# Altium schematic symbol library SMD Passive.SchLib: 216 symbols (part 2 of 4)
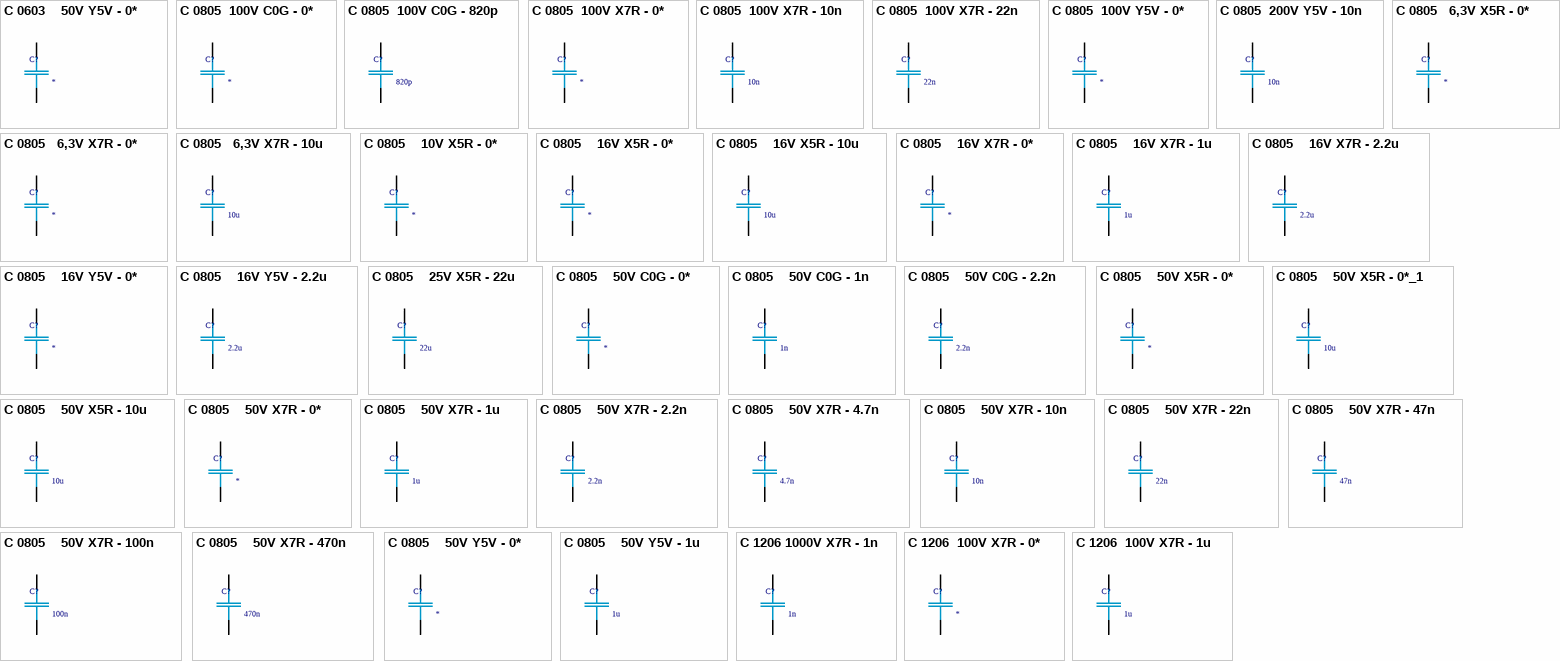
[diagram p6: symbols C 0603    50V Y5V - 0* to C 1206  100V X7R - 1u]

## C 0805    50V X5R - 10u
designator C?, comment 10u
SMD 0805     50V X5R 10%; Part Number: CC0805KKX5R9BB106; Manufacturer: Samsung; TYPE: Capacitors; Package-mm: 2012; Mount Type: SMT; Publisher: Hefest; Manufacturer Alternate: *; Part Number Alternate: *; Published: 07.04.2019; Supplier 1: Mouser; Supplier Part Number 1: 603-CC0805KKX59BB106; RoHS: Y; Technology: Ceramic  MLCC; Package: 0805; VDC: 50V; TempCo: X5R; Tolerance %: ±10%; VAC: *; ESR Ohm: *; ComponentLink1Description: Datasheet Link; ComponentLink1URL: https://www.mouser.bg/datasheet/2/447/UPY-GPHC_X5R_4V-to-50V_25-1131599.pdf; Temperature Range: -55°C ~ +85°C; Price: 10u; Value: 10u
footprint C 0805(2012)x0.65
simulation model Capacitor (Model Description)
signal-integrity model Capacitor (Model Description)
pins: 1, 2
1 alternate drawing of the same symbol

## C 0805    50V X7R - 0*
designator C?
SMD 0805     50V X7R 10%; Manufacturer: Samsung; TYPE: Capacitors; Package-mm: 2012; Part Number: *; Mount Type: SMT; Publisher: Hefest; Manufacturer Alternate: *; Part Number Alternate: *; Published: 07.04.2019; Supplier 1: Comet; Supplier Part Number 1: *; RoHS: Y; Technology: Ceramic  MLCC; Package: 0805; VDC: 50V; TempCo: X7R; Tolerance %: ±10%; VAC: *; ESR Ohm: *; ComponentLink1Description: Datasheet Link; ComponentLink1URL: https://store.comet.bg/download-file.php?id=11; Temperature Range: -55°C ~ +125°C; Price: *; Value: *
footprint C 0805(2012)x0.65
simulation model Capacitor (Model Description)
signal-integrity model Capacitor (Model Description)
pins: 1, 2
1 alternate drawing of the same symbol

## C 0805    50V X7R - 1u
designator C?, comment 1u
SMD 0805     50V X7R 10%; Part Number: CL21B105KBFNNNE; Manufacturer: Samsung; TYPE: Capacitors; Package-mm: 2012; Mount Type: SMT; Publisher: Hefest; Manufacturer Alternate: *; Part Number Alternate: *; Published: 07.04.2019; Supplier 1: Comet; Supplier Part Number 1: C0805 1.0uF 50V X7R SAMSUNG; RoHS: Y; Technology: Ceramic  MLCC; Package: 0805; VDC: 50V; TempCo: X7R; Tolerance %: ±10%; VAC: *; ESR Ohm: *; ComponentLink1Description: Datasheet Link; ComponentLink1URL: https://store.comet.bg/download-file.php?id=11; Temperature Range: -55°C ~ +125°C; Price: 0.17; Value: 1u
footprint C 0805(2012)x0.65
simulation model Capacitor (Model Description)
signal-integrity model Capacitor (Model Description)
pins: 1, 2
1 alternate drawing of the same symbol

## C 0805    50V X7R - 2.2n
designator C?, comment 2.2n
SMD 0805     50V X7R 10%; Part Number: CL21B222KBNC; Manufacturer: Samsung; TYPE: Capacitors; Package-mm: 2012; Mount Type: SMT; Publisher: Hefest; Manufacturer Alternate: *; Part Number Alternate: *; Published: 07.04.2019; Supplier 1: Comet; Supplier Part Number 1: C0805 2.2nF 50V X7R SAMSUNG; RoHS: Y; Technology: Ceramic  MLCC; Package: 0805; VDC: 50V; TempCo: X7R; Tolerance %: ±10%; VAC: *; ESR Ohm: *; ComponentLink1Description: Datasheet Link; ComponentLink1URL: https://store.comet.bg/download-file.php?id=11; Temperature Range: -55°C ~ +125°C; Price: 0.026; Value: 2.2n
footprint C 0805(2012)x0.65
simulation model Capacitor (Model Description)
signal-integrity model Capacitor (Model Description)
pins: 1, 2
1 alternate drawing of the same symbol

## C 0805    50V X7R - 4.7n
designator C?, comment 4.7n
SMD 0805     50V X7R 10%; Part Number: CL21B472KBNC; Manufacturer: Samsung; TYPE: Capacitors; Package-mm: 2012; Mount Type: SMT; Publisher: Hefest; Manufacturer Alternate: *; Part Number Alternate: *; Published: 07.04.2019; Supplier 1: Comet; Supplier Part Number 1: C0805 4.7nF 50V X7R; RoHS: Y; Technology: Ceramic  MLCC; Package: 0805; VDC: 50V; TempCo: X7R; Tolerance %: ±10%; VAC: *; ESR Ohm: *; ComponentLink1Description: Datasheet Link; ComponentLink1URL: https://store.comet.bg/download-file.php?id=11; Temperature Range: -55°C ~ +125°C; Price: 0.014; Value: 4.7n
footprint C 0805(2012)x0.65
simulation model Capacitor (Model Description)
signal-integrity model Capacitor (Model Description)
pins: 1, 2
1 alternate drawing of the same symbol

## C 0805    50V X7R - 10n
designator C?, comment 10n
SMD 0805     50V X7R 10%; Part Number: CL21B103KBNC; Manufacturer: Samsung; TYPE: Capacitors; Package-mm: 2012; Mount Type: SMT; Publisher: Hefest; Manufacturer Alternate: *; Part Number Alternate: *; Published: 07.04.2019; Supplier 1: Comet; Supplier Part Number 1: C0805 10nF 50V X7R SAMSUNG; RoHS: Y; Technology: Ceramic  MLCC; Package: 0805; VDC: 50V; TempCo: X7R; Tolerance %: ±10%; VAC: *; ESR Ohm: *; ComponentLink1Description: Datasheet Link; ComponentLink1URL: https://store.comet.bg/download-file.php?id=11; Temperature Range: -55°C ~ +125°C; Price: 0.032; Value: 10n
footprint C 0805(2012)x0.65
simulation model Capacitor (Model Description)
signal-integrity model Capacitor (Model Description)
pins: 1, 2
1 alternate drawing of the same symbol

## C 0805    50V X7R - 22n
designator C?, comment 22n
SMD 0805     50V X7R 10%; Part Number: CL21B223KBNC; Manufacturer: Samsung; TYPE: Capacitors; Package-mm: 2012; Mount Type: SMT; Publisher: Hefest; Manufacturer Alternate: *; Part Number Alternate: *; Published: 07.04.2019; Supplier 1: Comet; Supplier Part Number 1: C0805 22nF 50V X7R SAMSUNG; RoHS: Y; Technology: Ceramic  MLCC; Package: 0805; VDC: 50V; TempCo: X7R; Tolerance %: ±10%; VAC: *; ESR Ohm: *; ComponentLink1Description: Datasheet Link; ComponentLink1URL: https://store.comet.bg/download-file.php?id=11; Temperature Range: -55°C ~ +125°C; Price: 0.040; Value: 22n
footprint C 0805(2012)x0.65
simulation model Capacitor (Model Description)
signal-integrity model Capacitor (Model Description)
pins: 1, 2
1 alternate drawing of the same symbol

## C 0805    50V X7R - 47n
designator C?, comment 47n
SMD 0805     50V X7R 10%; Part Number: CL21B473KBNC; Manufacturer: Samsung; TYPE: Capacitors; Package-mm: 2012; Mount Type: SMT; Publisher: Hefest; Manufacturer Alternate: *; Part Number Alternate: *; Published: 07.04.2019; Supplier 1: Comet; Supplier Part Number 1: C0805 47nF 50V X7R SAMSUNG; RoHS: Y; Technology: Ceramic  MLCC; Package: 0805; VDC: 50V; TempCo: X7R; Tolerance %: ±10%; VAC: *; ESR Ohm: *; ComponentLink1Description: Datasheet Link; ComponentLink1URL: https://store.comet.bg/download-file.php?id=11; Temperature Range: -55°C ~ +125°C; Price: 0.320; Value: 47n
footprint C 0805(2012)x0.85
simulation model Capacitor (Model Description)
signal-integrity model Capacitor (Model Description)
pins: 1, 2
1 alternate drawing of the same symbol

## C 0805    50V X7R - 100n
designator C?, comment 100n
SMD 0805     50V X7R 10%; Part Number: CL21B104KB8NNNC; Manufacturer: Samsung; TYPE: Capacitors; Package-mm: 2012; Mount Type: SMT; Publisher: Hefest; Manufacturer Alternate: *; Part Number Alternate: *; Published: 07.04.2019; Supplier 1: Comet; Supplier Part Number 1: C0805 100nF 50V X7R SAMSUNG; RoHS: Y; Technology: Ceramic  MLCC; Package: 0805; VDC: 50V; TempCo: X7R; Tolerance %: ±10%; VAC: *; ESR Ohm: *; ComponentLink1Description: Datasheet Link; ComponentLink1URL: https://store.comet.bg/download-file.php?id=11; Temperature Range: -55°C ~ +125°C; Price: 0.048; Value: 100n
footprint C 0805(2012)x1.25
simulation model Capacitor (Model Description)
signal-integrity model Capacitor (Model Description)
pins: 1, 2
1 alternate drawing of the same symbol

## C 0805    50V X7R - 470n
designator C?, comment 470n
SMD 0805     50V X7R 10%; Part Number: CL21B474KBFNNNG; Manufacturer: Samsung; TYPE: Capacitors; Package-mm: 2012; Mount Type: SMT; Publisher: Hefest; Manufacturer Alternate: *; Part Number Alternate: *; Published: 07.04.2019; Supplier 1: Comet; Supplier Part Number 1: C0805 470nF 50V X7R SAMSUNG; RoHS: Y; Technology: Ceramic  MLCC; Package: 0805; VDC: 50V; TempCo: X7R; Tolerance %: ±10%; VAC: *; ESR Ohm: *; ComponentLink1Description: Datasheet Link; ComponentLink1URL: https://store.comet.bg/download-file.php?id=11; Temperature Range: -55°C ~ +125°C; Price: 0.012; Value: 470n
footprint C 0805(2012)x1.25
simulation model Capacitor (Model Description)
signal-integrity model Capacitor (Model Description)
pins: 1, 2
1 alternate drawing of the same symbol

## C 0805    50V Y5V - 0*
designator C?
SMD 0805     50V Y5V -82/+22%; Manufacturer: Samsung; TYPE: Capacitors; Package-mm: 2012; Part Number: *; Mount Type: SMT; Publisher: Hefest; Manufacturer Alternate: *; Part Number Alternate: *; Published: 07.04.2019; Supplier 1: Comet; Supplier Part Number 1: *; RoHS: Y; Technology: Ceramic  MLCC; Package: 0805; VDC: 50V; TempCo: Y5V; Tolerance %: -82/+22%; VAC: *; ESR Ohm: *; ComponentLink1Description: Datasheet Link; ComponentLink1URL: https://store.comet.bg/download-file.php?id=11; Temperature Range: -30°C ~ +85°C; Price: *; Value: *
footprint C 0805(2012)x0.65
simulation model Capacitor (Model Description)
signal-integrity model Capacitor (Model Description)
pins: 1, 2
1 alternate drawing of the same symbol

## C 0805    50V Y5V - 1u
designator C?, comment 1u
SMD 0805     50V Y5V -82/+22%; Part Number: CL21F105ZBFNNNG; Manufacturer: Samsung; TYPE: Capacitors; Package-mm: 2012; Mount Type: SMT; Publisher: Hefest; Manufacturer Alternate: *; Part Number Alternate: *; Published: 07.04.2019; Supplier 1: Comet; Supplier Part Number 1: C0805 1.0uF 50V Y5V SAMSUNG; RoHS: Y; Technology: Ceramic  MLCC; Package: 0805; VDC: 50V; TempCo: Y5V; Tolerance %: -82/+22%; VAC: *; ESR Ohm: *; ComponentLink1Description: Datasheet Link; ComponentLink1URL: https://store.comet.bg/download-file.php?id=11; Temperature Range: -30°C ~ +85°C; Price: 0.098; Value: 1u
footprint C 0805(2012)x0.65
simulation model Capacitor (Model Description)
signal-integrity model Capacitor (Model Description)
pins: 1, 2
1 alternate drawing of the same symbol

## C 1206 1000V X7R - 1n
designator C?, comment 1n
SMD 1206 1000V X7R 10%; Manufacturer: YAGEO; TYPE: Capacitors; Tolerance %: ±5%; Package-mm: 3216; Part Number: *; Mount Type: SMT; Publisher: Hefest; Manufacturer Alternate: *; Part Number Alternate: *; Published: 07.04.2019; Supplier 1: Comet; Supplier Part Number 1: C1206 1.0nF 1000V X7R; RoHS: Y; Technology: Ceramic  MLCC; Package: 1206; VDC: 1000V; TempCo: X7R; VAC: *; ESR Ohm: *; ComponentLink1Description: Datasheet Link; ComponentLink1URL: https://store.comet.bg/download-file.php?id=15184; Temperature Range: -55°C ~ +125°C; Price: 0.130; Value: 1n
footprint C 1206(3216)x1.25
simulation model Capacitor (Model Description)
signal-integrity model Capacitor (Model Description)
pins: 1, 2
1 alternate drawing of the same symbol

## C 1206  100V X7R - 0*
designator C?
SMD 1206   100V X7R 10%; Manufacturer: Samsung; TYPE: Capacitors; Package-mm: 3216; Part Number: *; Mount Type: SMT; Publisher: Hefest; Manufacturer Alternate: *; Part Number Alternate: *; Published: 07.04.2019; Supplier 1: Comet; Supplier Part Number 1: *; RoHS: Y; Technology: Ceramic  MLCC; Package: 1206; VDC: 100V; TempCo: X7R; Tolerance %: ±10%; VAC: *; ESR Ohm: *; ComponentLink1Description: Datasheet Link; ComponentLink1URL: https://store.comet.bg/download-file.php?id=11; Temperature Range: -55°C ~ +125°C; Price: *; Value: *
footprint C 1210(3225)x1.6
simulation model Capacitor (Model Description)
signal-integrity model Capacitor (Model Description)
pins: 1, 2
1 alternate drawing of the same symbol

## C 1206  100V X7R - 1u
designator C?, comment 1u
SMD 1206   100V X7R 10%; Part Number: CL31B105KCHSNNE; Manufacturer: Samsung; TYPE: Capacitors; Package-mm: 3216; Mount Type: SMT; Publisher: Hefest; Manufacturer Alternate: *; Part Number Alternate: *; Published: 07.04.2019; Supplier 1: Comet; Supplier Part Number 1: C1206 1.0uF 100V X7R SAMSUNG; RoHS: Y; Technology: Ceramic  MLCC; Package: 1206; VDC: 100V; TempCo: X7R; Tolerance %: ±10%; VAC: *; ESR Ohm: *; ComponentLink1Description: Datasheet Link; ComponentLink1URL: https://store.comet.bg/download-file.php?id=11; Temperature Range: -55°C ~ +125°C; Price: 0.470; Value: 1u
footprint C 1206(3216)x1.6
simulation model Capacitor (Model Description)
signal-integrity model Capacitor (Model Description)
pins: 1, 2
1 alternate drawing of the same symbol

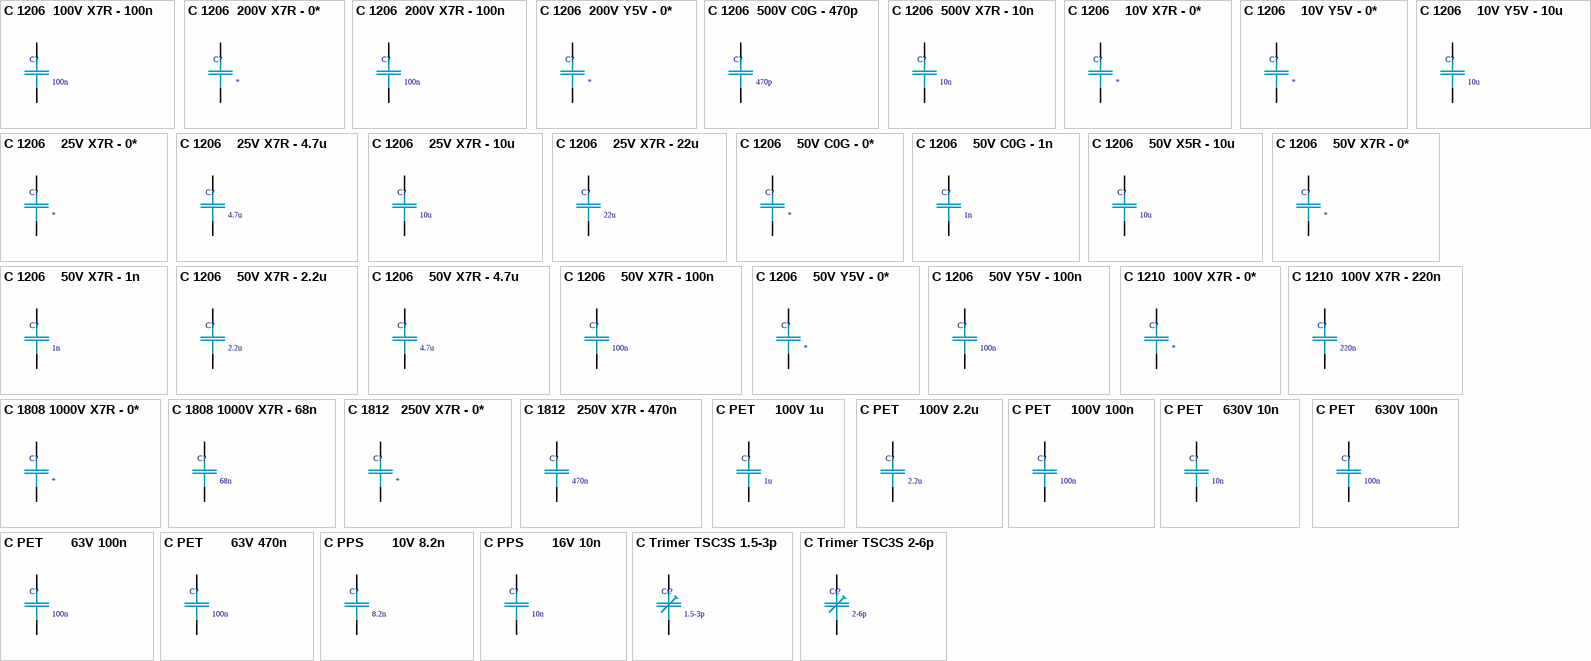
[diagram p2: symbols C 1206  100V X7R - 100n to C Trimer TSC3S 2-6p]

## C 1206  100V X7R - 100n
designator C?, comment 100n
SMD 1206   100V X7R 10%; Part Number: CL31B104KCFNNNE; Manufacturer: Samsung; TYPE: Capacitors; Package-mm: 3216; Mount Type: SMT; Publisher: Hefest; Manufacturer Alternate: *; Part Number Alternate: *; Published: 07.04.2019; Supplier 1: Comet; Supplier Part Number 1: C1206 100nF 100V X7R SAMSUNG; RoHS: Y; Technology: Ceramic  MLCC; Package: 1206; VDC: 100V; TempCo: X7R; Tolerance %: ±10%; VAC: *; ESR Ohm: *; ComponentLink1Description: Datasheet Link; ComponentLink1URL: https://store.comet.bg/download-file.php?id=11; Temperature Range: -55°C ~ +125°C; Price: 0.090; ComponentLink2Description: Characteristics data; ComponentLink2URL: https://store.comet.bg/download-file.php?id=3821; Value: 100n
footprint C 1206(3216)x1.25
simulation model Capacitor (Model Description)
signal-integrity model Capacitor (Model Description)
pins: 1, 2
1 alternate drawing of the same symbol

## C 1206  200V X7R - 0*
designator C?
SMD 1206   100V X7R 10%; Manufacturer: Samsung; TYPE: Capacitors; VDC: 200V; Package-mm: 3216; Part Number: *; Mount Type: SMT; Publisher: Hefest; Manufacturer Alternate: *; Part Number Alternate: *; Published: 07.04.2019; Supplier 1: Comet; Supplier Part Number 1: *; RoHS: Y; Technology: Ceramic  MLCC; Package: 1206; TempCo: X7R; Tolerance %: ±10%; VAC: *; ESR Ohm: *; ComponentLink1Description: Datasheet Link; ComponentLink1URL: https://store.comet.bg/download-file.php?id=11; Temperature Range: -55°C ~ +125°C; Price: *; Value: *
footprint C 1206(3216)x0.85
simulation model Capacitor (Model Description)
signal-integrity model Capacitor (Model Description)
pins: 1, 2
1 alternate drawing of the same symbol

## C 1206  200V X7R - 100n
designator C?, comment 100n
SMD 1206   200V X7R 10%; Manufacturer: Samsung; TYPE: Capacitors; Package-mm: 3216; Part Number: *; Mount Type: SMT; Publisher: Hefest; Manufacturer Alternate: *; Part Number Alternate: *; Published: 07.04.2019; Supplier 1: Comet; Supplier Part Number 1: C1206 100nF 200V X7R SAMSUNG; RoHS: Y; Technology: Ceramic  MLCC; Package: 1206; VDC: 200V; TempCo: X7R; Tolerance %: ±10%; VAC: *; ESR Ohm: *; ComponentLink1Description: Datasheet Link; ComponentLink1URL: https://store.comet.bg/download-file.php?id=6610; Temperature Range: -55°C ~ +125°C; Price: 0.100; Value: 100n
footprint C 1206(3216)x1.6
simulation model Capacitor (Model Description)
signal-integrity model Capacitor (Model Description)
pins: 1, 2
1 alternate drawing of the same symbol

## C 1206  200V Y5V - 0*
designator C?
SMD 1206   200V Y5V -82/+22%; Manufacturer: Samsung; TYPE: Capacitors; Package-mm: 3216; Part Number: *; Mount Type: SMT; Publisher: Hefest; Manufacturer Alternate: *; Part Number Alternate: *; Published: 07.04.2019; Supplier 1: Comet; Supplier Part Number 1: *; RoHS: Y; Technology: Ceramic  MLCC; Package: 1206; VDC: 200V; TempCo: Y5V; Tolerance %: -82/+22%; VAC: *; ESR Ohm: *; ComponentLink1Description: Datasheet Link; ComponentLink1URL: https://store.comet.bg/download-file.php?id=11; Temperature Range: -30°C ~ +85°C; Price: *; Value: *
footprint C 1206(3216)x0.85
simulation model Capacitor (Model Description)
signal-integrity model Capacitor (Model Description)
pins: 1, 2
1 alternate drawing of the same symbol

## C 1206  500V C0G - 470p
designator C?, comment 470p
SMD 1206   500V C0G 10%; Part Number: CL31C471JGFNNNE; Manufacturer: Samsung; TYPE: Capacitors; Tolerance %: ±5%; Package-mm: 3216; Mount Type: SMT; Publisher: Hefest; Manufacturer Alternate: *; Part Number Alternate: *; Published: 07.04.2019; Supplier 1: Comet; Supplier Part Number 1: C1206 470pF 500V C0G SAMSUNG; RoHS: Y; Technology: Ceramic  MLCC; Package: 1206; VDC: 500V; TempCo: C0G; VAC: *; ESR Ohm: *; ComponentLink1Description: Datasheet Link; ComponentLink1URL: https://store.comet.bg/download-file.php?id=11; Temperature Range: -55°C ~ +125°C; Price: 0.180; ComponentLink2Description: Characteristics data; ComponentLink2URL: https://store.comet.bg/download-file.php?id=5201; Value: 470p
footprint C 1206(3216)x1.25
simulation model Capacitor (Model Description)
signal-integrity model Capacitor (Model Description)
pins: 1, 2
1 alternate drawing of the same symbol

## C 1206  500V X7R - 10n
designator C?, comment 10n
SMD 1206   500V X7R 10%; Part Number: CL31B103KGFNNNE; Manufacturer: Samsung; TYPE: Capacitors; Tolerance %: ±5%; Package-mm: 3216; Mount Type: SMT; Publisher: Hefest; Manufacturer Alternate: *; Part Number Alternate: *; Published: 07.04.2019; Supplier 1: Comet; Supplier Part Number 1: C1206 10nF 500V X7R SAMSUNG; RoHS: Y; Technology: Ceramic  MLCC; Package: 1206; VDC: 500V; TempCo: X7R; VAC: *; ESR Ohm: *; ComponentLink1Description: Datasheet Link; ComponentLink1URL: https://store.comet.bg/download-file.php?id=6610; Temperature Range: -55°C ~ +125°C; Price: 0.050; ComponentLink2Description: Characteristics data; ComponentLink2URL: https://store.comet.bg/download-file.php?id=3816; Value: 10n
footprint C 1206(3216)x1.25
simulation model Capacitor (Model Description)
signal-integrity model Capacitor (Model Description)
pins: 1, 2
1 alternate drawing of the same symbol

## C 1206    10V X7R - 0*
designator C?
SMD 1206     10V X7R 10%; Manufacturer: Samsung; TYPE: Capacitors; Package-mm: 3216; Part Number: *; Mount Type: SMT; Publisher: Hefest; Manufacturer Alternate: *; Part Number Alternate: *; Published: 07.04.2019; Supplier 1: Comet; Supplier Part Number 1: *; RoHS: Y; Technology: Ceramic  MLCC; Package: 1206; VDC: 10V; TempCo: X7R; Tolerance %: ±10%; VAC: *; ESR Ohm: *; ComponentLink1Description: Datasheet Link; ComponentLink1URL: https://store.comet.bg/download-file.php?id=11; Temperature Range: -55°C ~ +125°C; Price: *; Value: *
footprint C 1206(3216)x0.85
simulation model Capacitor (Model Description)
signal-integrity model Capacitor (Model Description)
pins: 1, 2
1 alternate drawing of the same symbol

## C 1206    10V Y5V - 0*
designator C?
SMD 1206     10V Y5V -82/+22%; Manufacturer: Samsung; TYPE: Capacitors; Package-mm: 3216; Part Number: *; Mount Type: SMT; Publisher: Hefest; Manufacturer Alternate: *; Part Number Alternate: *; Published: 07.04.2019; Supplier 1: Comet; Supplier Part Number 1: *; RoHS: Y; Technology: Ceramic  MLCC; Package: 1206; VDC: 10V; TempCo: Y5V; Tolerance %: -82/+22%; VAC: *; ESR Ohm: *; ComponentLink1Description: Datasheet Link; ComponentLink1URL: https://store.comet.bg/download-file.php?id=11; Temperature Range: -30°C ~ +85°C; Price: *; Value: *
footprint C 1206(3216)x0.85
simulation model Capacitor (Model Description)
signal-integrity model Capacitor (Model Description)
pins: 1, 2
1 alternate drawing of the same symbol

## C 1206    10V Y5V - 10u
designator C?, comment 10u
SMD 1206     10V Y5V -82/+22%; Part Number: CL31F106ZPHNNNE; Manufacturer: Samsung; TYPE: Capacitors; Package-mm: 3216; Mount Type: SMT; Publisher: Hefest; Manufacturer Alternate: *; Part Number Alternate: *; Published: 07.04.2019; Supplier 1: Comet; Supplier Part Number 1: C1206 10uF 10V Y5V SAMSUNG; RoHS: Y; Technology: Ceramic  MLCC; Package: 1206; VDC: 10V; TempCo: Y5V; Tolerance %: -82/+22%; VAC: *; ESR Ohm: *; ComponentLink1Description: Datasheet Link; ComponentLink1URL: https://store.comet.bg/download-file.php?id=11; Temperature Range: -30°C ~ +85°C; Price: 0.190; Value: 10u
footprint C 1206(3216)x1.6
simulation model Capacitor (Model Description)
signal-integrity model Capacitor (Model Description)
pins: 1, 2
1 alternate drawing of the same symbol

## C 1206    25V X7R - 0*
designator C?
SMD 1206     25V X7R 10%; Manufacturer: Samsung; TYPE: Capacitors; Package-mm: 3216; Part Number: *; Mount Type: SMT; Publisher: Hefest; Manufacturer Alternate: *; Part Number Alternate: *; Published: 07.04.2019; Supplier 1: Comet; Supplier Part Number 1: *; RoHS: Y; Technology: Ceramic  MLCC; Package: 1206; VDC: 25V; TempCo: X7R; Tolerance %: ±10%; VAC: *; ESR Ohm: *; ComponentLink1Description: Datasheet Link; ComponentLink1URL: https://store.comet.bg/download-file.php?id=11; Temperature Range: -55°C ~ +125°C; Price: *; Value: *
footprint C 1206(3216)x0.85
simulation model Capacitor (Model Description)
signal-integrity model Capacitor (Model Description)
pins: 1, 2
1 alternate drawing of the same symbol

## C 1206    25V X7R - 4.7u
designator C?, comment 4.7u
SMD 1206     25V X7R 10%; Part Number: CL31B475KAHNNNE; Manufacturer: Samsung; TYPE: Capacitors; Package-mm: 3216; Mount Type: SMT; Publisher: Hefest; Manufacturer Alternate: *; Part Number Alternate: *; Published: 07.04.2019; Supplier 1: Comet; Supplier Part Number 1: C1206 4.7uF 25V X7R SAMSUNG; RoHS: Y; Technology: Ceramic  MLCC; Package: 1206; VDC: 25V; TempCo: X7R; Tolerance %: ±10%; VAC: *; ESR Ohm: *; ComponentLink1Description: Datasheet Link; ComponentLink1URL: https://store.comet.bg/download-file.php?id=11; Temperature Range: -55°C ~ +125°C; Price: 0.300; Value: 4.7u
footprint C 1206(3216)x1.6
simulation model Capacitor (Model Description)
signal-integrity model Capacitor (Model Description)
pins: 1, 2
1 alternate drawing of the same symbol

## C 1206    25V X7R - 10u
designator C?, comment 10u
SMD 1206     25V X7R 10%; Part Number: CL31B106KAHNNNE; Manufacturer: Samsung; TYPE: Capacitors; Package-mm: 3216; Mount Type: SMT; Publisher: Hefest; Manufacturer Alternate: *; Part Number Alternate: *; Published: 07.04.2019; Supplier 1: Comet; Supplier Part Number 1: C1206 10uF 25V X7R SAMSUNG; RoHS: Y; Technology: Ceramic  MLCC; Package: 1206; VDC: 25V; TempCo: X7R; Tolerance %: ±10%; VAC: *; ESR Ohm: *; ComponentLink1Description: Datasheet Link; ComponentLink1URL: https://store.comet.bg/download-file.php?id=11; Temperature Range: -55°C ~ +125°C; Price: 0.240; Value: 10u
footprint C 1206(3216)x1.6
simulation model Capacitor (Model Description)
signal-integrity model Capacitor (Model Description)
pins: 1, 2
1 alternate drawing of the same symbol

## C 1206    25V X7R - 22u
designator C?, comment 22u
SMD 1206     25V X7R 10%; Part Number: 0.76; Manufacturer: Samsung; TYPE: Capacitors; Package-mm: 3216; Mount Type: SMT; Publisher: Hefest; Manufacturer Alternate: *; Part Number Alternate: *; Published: 07.04.2019; Supplier 1: Comet; Supplier Part Number 1: C1206 22uF 25V X5R; RoHS: Y; Technology: Ceramic  MLCC; Package: 1206; VDC: 25V; TempCo: X7R; Tolerance %: ±10%; VAC: *; ESR Ohm: *; ComponentLink1Description: Datasheet Link; ComponentLink1URL: https://store.comet.bg/download-file.php?id=11; Temperature Range: -55°C ~ +125°C; Price: 0.760; Value: 22u
footprint C 1206(3216)x1.6
simulation model Capacitor (Model Description)
signal-integrity model Capacitor (Model Description)
pins: 1, 2
1 alternate drawing of the same symbol

## C 1206    50V C0G - 0*
designator C?
SMD 1206     50V C0G  5%; Manufacturer: Samsung; TYPE: Capacitors; Package-mm: 3216; Part Number: *; Mount Type: SMT; Publisher: Hefest; Manufacturer Alternate: *; Part Number Alternate: *; Published: 07.04.2019; Supplier 1: Comet; Supplier Part Number 1: *; RoHS: Y; Technology: Ceramic  MLCC; Package: 1206; VDC: 50V; TempCo: C0G; Tolerance %: ±5%; VAC: *; ESR Ohm: *; ComponentLink1Description: Datasheet Link; ComponentLink1URL: https://store.comet.bg/download-file.php?id=11; Temperature Range: -55°C ~ +125°C; Price: *; Value: *
footprint C 1206(3216)x0.85
simulation model Capacitor (Model Description)
signal-integrity model Capacitor (Model Description)
pins: 1, 2
1 alternate drawing of the same symbol

## C 1206    50V C0G - 1n
designator C?, comment 1n
SMD 1206     50V C0G  5%; Part Number: CL31C102JBNC; Manufacturer: Samsung; TYPE: Capacitors; VDC: 500V; Package-mm: 3216; Mount Type: SMT; Publisher: Hefest; Manufacturer Alternate: *; Part Number Alternate: *; Published: 07.04.2019; Supplier 1: Comet; Supplier Part Number 1: C1206 1.0nF 50V C0G SAMSUNG; RoHS: Y; Technology: Ceramic  MLCC; Package: 1206; TempCo: C0G; Tolerance %: ±5%; VAC: *; ESR Ohm: *; ComponentLink1Description: Datasheet Link; ComponentLink1URL: https://store.comet.bg/download-file.php?id=11; Temperature Range: -55°C ~ +125°C; Price: 0.130; Value: 1n
footprint C 1206(3216)x0.85
simulation model Capacitor (Model Description)
signal-integrity model Capacitor (Model Description)
pins: 1, 2
1 alternate drawing of the same symbol

## C 1206    50V X5R - 10u
designator C?, comment 10u
SMD 1206     50V X5R 10%; Part Number: CL31A106KBHNNNE; Manufacturer: Samsung; TYPE: Capacitors; Package-mm: 3216; Mount Type: SMT; Publisher: Hefest; Manufacturer Alternate: *; Part Number Alternate: *; Published: 07.04.2019; Supplier 1: Comet; Supplier Part Number 1: C1206 10uF 50V X5R SAMSUNG; RoHS: Y; Technology: Ceramic  MLCC; Package: 1206; VDC: 50V; TempCo: X5R; Tolerance %: ±10%; VAC: *; ESR Ohm: *; ComponentLink1Description: Datasheet Link; ComponentLink1URL: https://store.comet.bg/download-file.php?id=11; Temperature Range: -55°C ~ +125°C; Price: *; Value: 10u
footprint C 1206(3216)x0.85
simulation model Capacitor (Model Description)
signal-integrity model Capacitor (Model Description)
pins: 1, 2
1 alternate drawing of the same symbol

## C 1206    50V X7R - 0*
designator C?
SMD 1206     50V X7R 10%; Manufacturer: Samsung; TYPE: Capacitors; Package-mm: 3216; Part Number: *; Mount Type: SMT; Publisher: Hefest; Manufacturer Alternate: *; Part Number Alternate: *; Published: 07.04.2019; Supplier 1: Comet; Supplier Part Number 1: *; RoHS: Y; Technology: Ceramic  MLCC; Package: 1206; VDC: 50V; TempCo: X7R; Tolerance %: ±10%; VAC: *; ESR Ohm: *; ComponentLink1Description: Datasheet Link; ComponentLink1URL: https://store.comet.bg/download-file.php?id=11; Temperature Range: -55°C ~ +125°C; Price: *; Value: *
footprint C 1206(3216)x0.85
simulation model Capacitor (Model Description)
signal-integrity model Capacitor (Model Description)
pins: 1, 2
1 alternate drawing of the same symbol

## C 1206    50V X7R - 1n
designator C?, comment 1n
SMD 1206     50V X7R 10%; Part Number: CL31B102KBNC; Manufacturer: Samsung; TYPE: Capacitors; Package-mm: 3216; Mount Type: SMT; Publisher: Hefest; Manufacturer Alternate: *; Part Number Alternate: *; Published: 07.04.2019; Supplier 1: Comet; Supplier Part Number 1: C1206 1.0nF 50V X7R SAMSUNG; RoHS: Y; Technology: Ceramic  MLCC; Package: 1206; VDC: 50V; TempCo: X7R; Tolerance %: ±10%; VAC: *; ESR Ohm: *; ComponentLink1Description: Datasheet Link; ComponentLink1URL: https://store.comet.bg/download-file.php?id=11; Temperature Range: -55°C ~ +125°C; Price: 0.046; Value: 1n
footprint C 1206(3216)x0.85
simulation model Capacitor (Model Description)
signal-integrity model Capacitor (Model Description)
pins: 1, 2
1 alternate drawing of the same symbol

## C 1206    50V X7R - 2.2u
designator C?, comment 2.2u
SMD 1206     50V X7R 10%; Part Number: CL31B225KBHNNNE; Manufacturer: Samsung; TYPE: Capacitors; Package-mm: 3216; Mount Type: SMT; Publisher: Hefest; Manufacturer Alternate: *; Part Number Alternate: *; Published: 07.04.2019; Supplier 1: Comet; Supplier Part Number 1: C1206 2.2uF 50V X7R SAMSUNG; RoHS: Y; Technology: Ceramic  MLCC; Package: 1206; VDC: 50V; TempCo: X7R; Tolerance %: ±10%; VAC: *; ESR Ohm: *; ComponentLink1Description: Datasheet Link; ComponentLink1URL: https://store.comet.bg/download-file.php?id=11; Temperature Range: -55°C ~ +125°C; Price: 0.190; Value: 2.2u
footprint C 1206(3216)x1.6
simulation model Capacitor (Model Description)
signal-integrity model Capacitor (Model Description)
pins: 1, 2
1 alternate drawing of the same symbol

## C 1206    50V X7R - 4.7u
designator C?, comment 4.7u
SMD 1206     50V X7R 10%; Part Number: CL31B475KBHNNNE; Manufacturer: Samsung; TYPE: Capacitors; Package-mm: 3216; Mount Type: SMT; Publisher: Hefest; Manufacturer Alternate: *; Part Number Alternate: *; Published: 07.04.2019; Supplier 1: Comet; Supplier Part Number 1: C1206 4.7uF 50V X7R SAMSUNG; RoHS: Y; Technology: Ceramic  MLCC; Package: 1206; VDC: 50V; TempCo: X7R; Tolerance %: ±10%; VAC: *; ESR Ohm: *; ComponentLink1Description: Datasheet Link; ComponentLink1URL: https://store.comet.bg/download-file.php?id=11; Temperature Range: -55°C ~ +125°C; Price: 0.290; Value: 4.7u
footprint C 1206(3216)x1.6
simulation model Capacitor (Model Description)
signal-integrity model Capacitor (Model Description)
pins: 1, 2
1 alternate drawing of the same symbol

## C 1206    50V X7R - 100n
designator C?, comment 100n
SMD 1206     50V X7R 10%; Part Number: CL31B104KBNC; Manufacturer: Samsung; TYPE: Capacitors; Package-mm: 3216; Mount Type: SMT; Publisher: Hefest; Manufacturer Alternate: *; Part Number Alternate: *; Published: 07.04.2019; Supplier 1: Comet; Supplier Part Number 1: C1206 100nF 50V X7R SAMSUNG; RoHS: Y; Technology: Ceramic  MLCC; Package: 1206; VDC: 50V; TempCo: X7R; Tolerance %: ±10%; VAC: *; ESR Ohm: *; ComponentLink1Description: Datasheet Link; ComponentLink1URL: https://store.comet.bg/download-file.php?id=11; Temperature Range: -55°C ~ +125°C; Price: 0.120; Value: 100n
footprint C 1206(3216)x0.85
simulation model Capacitor (Model Description)
signal-integrity model Capacitor (Model Description)
pins: 1, 2
1 alternate drawing of the same symbol

## C 1206    50V Y5V - 0*
designator C?
SMD 1206     50V Y5V -82/+22%; Manufacturer: Samsung; TYPE: Capacitors; Package-mm: 3216; Part Number: *; Mount Type: SMT; Publisher: Hefest; Manufacturer Alternate: *; Part Number Alternate: *; Published: 07.04.2019; Supplier 1: Comet; Supplier Part Number 1: *; RoHS: Y; Technology: Ceramic  MLCC; Package: 1206; VDC: 50V; TempCo: Y5V; Tolerance %: -82/+22%; VAC: *; ESR Ohm: *; ComponentLink1Description: Datasheet Link; ComponentLink1URL: https://store.comet.bg/download-file.php?id=11; Temperature Range: -30°C ~ +85°C; Price: *; Value: *
footprint C 1206(3216)x0.85
simulation model Capacitor (Model Description)
signal-integrity model Capacitor (Model Description)
pins: 1, 2
1 alternate drawing of the same symbol

## C 1206    50V Y5V - 100n
designator C?, comment 100n
SMD 1206     50V Y5V -82/+22%; Part Number: CL31F104ZBNC; Manufacturer: Samsung; TYPE: Capacitors; Package-mm: 3216; Mount Type: SMT; Publisher: Hefest; Manufacturer Alternate: *; Part Number Alternate: *; Published: 07.04.2019; Supplier 1: Comet; Supplier Part Number 1: C1206 100nF 50V Y5V SAMSUNG; RoHS: Y; Technology: Ceramic  MLCC; Package: 1206; VDC: 50V; TempCo: Y5V; Tolerance %: -82/+22%; VAC: *; ESR Ohm: *; ComponentLink1Description: Datasheet Link; ComponentLink1URL: https://store.comet.bg/download-file.php?id=11; Temperature Range: -30°C ~ +85°C; Price: 0.120; Value: 100n
footprint C 1206(3216)x0.85
simulation model Capacitor (Model Description)
signal-integrity model Capacitor (Model Description)
pins: 1, 2
1 alternate drawing of the same symbol

## C 1210  100V X7R - 0*
designator C?
SMD 1210   100V X7R 10%; Manufacturer: Samsung; TYPE: Capacitors; Package-mm: 3225; Part Number: *; Mount Type: SMT; Publisher: Hefest; Manufacturer Alternate: *; Part Number Alternate: *; Published: 07.04.2019; Supplier 1: Comet; Supplier Part Number 1: *; RoHS: Y; Technology: Ceramic  MLCC; Package: 1210; VDC: 100V; TempCo: X7R; Tolerance %: ±10%; VAC: *; ESR Ohm: *; ComponentLink1Description: Datasheet Link; ComponentLink1URL: https://store.comet.bg/download-file.php?id=11; Temperature Range: -55°C ~ +125°C; Price: *; Value: *
footprint C 1206(3216)x0.85
simulation model Capacitor (Model Description)
signal-integrity model Capacitor (Model Description)
pins: 1, 2
1 alternate drawing of the same symbol

## C 1210  100V X7R - 220n
designator C?, comment 220n
SMD 1210   100V X7R 10%; Part Number: CL32B224KCHNNNE; Manufacturer: Samsung; TYPE: Capacitors; Package-mm: 3225; Mount Type: SMT; Publisher: Hefest; Manufacturer Alternate: *; Part Number Alternate: *; Published: 07.04.2019; Supplier 1: Comet; Supplier Part Number 1: C1210 220nF 100V X7R; RoHS: Y; Technology: Ceramic  MLCC; Package: 1210; VDC: 100V; TempCo: X7R; Tolerance %: ±10%; VAC: *; ESR Ohm: *; ComponentLink1Description: Datasheet Link; ComponentLink1URL: https://store.comet.bg/download-file.php?id=11; Temperature Range: -55°C ~ +125°C; Price: 0.310; ComponentLink2Description: Characteristics data; ComponentLink2URL: https://store.comet.bg/download-file.php?id=4735; Value: 220n
footprint C 1210(3225)x1.6
simulation model Capacitor (Model Description)
signal-integrity model Capacitor (Model Description)
pins: 1, 2
1 alternate drawing of the same symbol

## C 1808 1000V X7R - 0*
designator C?
SMD 1808 1000V X7R 10%; Manufacturer: Samsung; TYPE: Capacitors; Package-mm: 4520; Part Number: *; Mount Type: SMT; Publisher: Hefest; Manufacturer Alternate: *; Part Number Alternate: *; Published: 07.04.2019; Supplier 1: Comet; Supplier Part Number 1: *; RoHS: Y; Technology: Ceramic  MLCC; Package: 1808; VDC: 1000V; TempCo: X7R; Tolerance %: ±10%; VAC: *; ESR Ohm: *; ComponentLink1Description: Datasheet Link; ComponentLink1URL: https://store.comet.bg/download-file.php?id=11; Temperature Range: -55°C ~ +125°C; Price: *; Value: *
simulation model Capacitor (Model Description)
signal-integrity model Capacitor (Model Description)
footprint C 1808(4520)x2
pins: 1, 2
1 alternate drawing of the same symbol

## C 1808 1000V X7R - 68n
designator C?, comment 68n
SMD 1808 1000V X7R 10%; Part Number: C1808V683KDRACTU; Manufacturer: KEMET; TYPE: Capacitors; Package-mm: 4520; Mount Type: SMT; Publisher: Hefest; Manufacturer Alternate: *; Part Number Alternate: *; Published: 07.04.2019; Supplier 1: Comet; Supplier Part Number 1: C1808 68nF 1000V X7R 10%; RoHS: Y; Technology: Ceramic  MLCC; Package: 1808; VDC: 1000V; TempCo: X7R; Tolerance %: ±10%; VAC: *; ESR Ohm: *; ComponentLink1Description: Datasheet Link; ComponentLink1URL: https://store.comet.bg/download-file.php?id=15459; Temperature Range: -55°C ~ +125°C; Price: *; Value: 68n
simulation model Capacitor (Model Description)
signal-integrity model Capacitor (Model Description)
footprint C 1808(4520)x2
pins: 1, 2
1 alternate drawing of the same symbol

## C 1812   250V X7R - 0*
designator C?
SMD 1812   250V X7R 10%; Manufacturer: Samsung; TYPE: Capacitors; Package-mm: 4532; Part Number: *; Mount Type: SMT; Publisher: Hefest; Manufacturer Alternate: *; Part Number Alternate: *; Published: 07.04.2019; Supplier 1: Comet; Supplier Part Number 1: *; RoHS: Y; Technology: Ceramic  MLCC; Package: 1812; VDC: 250V; TempCo: X7R; Tolerance %: ±10%; VAC: *; ESR Ohm: *; ComponentLink1Description: Datasheet Link; ComponentLink1URL: https://store.comet.bg/download-file.php?id=11; Temperature Range: -55°C ~ +125°C; Price: *; Value: *
simulation model Capacitor (Model Description)
signal-integrity model Capacitor (Model Description)
footprint C 1812(4532)x2.5
pins: 1, 2
1 alternate drawing of the same symbol

## C 1812   250V X7R - 470n
designator C?, comment 470n
SMD 1812   250V X7R 10%; Manufacturer: Samsung; TYPE: Capacitors; Package-mm: 4532; Part Number: *; Mount Type: SMT; Publisher: Hefest; Manufacturer Alternate: *; Part Number Alternate: *; Published: 07.04.2019; Supplier 1: Comet; Supplier Part Number 1: *; RoHS: Y; Technology: Ceramic  MLCC; Package: 1812; VDC: 250V; TempCo: X7R; Tolerance %: ±10%; VAC: *; ESR Ohm: *; ComponentLink1Description: Datasheet Link; ComponentLink1URL: https://store.comet.bg/download-file.php?id=11; Temperature Range: -55°C ~ +125°C; Price: *; Value: 470n
simulation model Capacitor (Model Description)
signal-integrity model Capacitor (Model Description)
footprint C 1812(4532)x2.5
pins: 1, 2
1 alternate drawing of the same symbol

## C PET     100V 1u
designator C?, comment 1u
SMD 2824 PET 100V 10%; Manufacturer: WIMA; TYPE: Capacitors; VAC: 63V; Part Number: *; Mount Type: SMT; Publisher: Hefest; Manufacturer Alternate: *; Part Number Alternate: *; Published: 07.04.2019; Supplier 1: *; Supplier Part Number 1: *; RoHS: Y; Technology: Film  PET; Package: 2824; VDC: 100V; TempCo: *; Tolerance %: ±10%; ESR Ohm: *; Temperature Range: -55°C ~ +100°C; Price: *; ComponentLink1Description: Datasheet Link; ComponentLink1URL: https://store.comet.bg/download-file.php?id=2289; Package-mm: *; Value: 1u
simulation model Capacitor (Model Description)
signal-integrity model Capacitor (Model Description)
footprint C PET 2824(7261)x5
pins: 1, 2
1 alternate drawing of the same symbol

## C PET     100V 2.2u
designator C?, comment 2.2u
SMD 5040 PET 100V 10%; Manufacturer: WIMA; TYPE: Capacitors; VAC: 63V; Part Number: *; Mount Type: SMT; Publisher: Hefest; Manufacturer Alternate: *; Part Number Alternate: *; Published: 07.04.2019; Supplier 1: *; Supplier Part Number 1: *; RoHS: Y; Technology: Film  PET; Package: 5040; VDC: 100V; TempCo: *; Tolerance %: ±10%; ESR Ohm: *; Temperature Range: -55°C ~ +100°C; Price: *; ComponentLink1Description: Datasheet Link; ComponentLink1URL: https://store.comet.bg/download-file.php?id=2289; Package-mm: *; Value: 2.2u
footprint C PET 5040x6
simulation model Capacitor (Model Description)
signal-integrity model Capacitor (Model Description)
pins: 1, 2
1 alternate drawing of the same symbol

## C PET     100V 100n
designator C?, comment 100n
SMD 2220 PET 100V 10%; Part Number: SMDTD03100Y100KP00; Manufacturer: WIMA; TYPE: Capacitors; VAC: 63V; Mount Type: SMT; Publisher: Hefest; Manufacturer Alternate: *; Part Number Alternate: *; Published: 07.04.2019; Supplier 1: Comet; Supplier Part Number 1: CW 100nF 100Vdc SMD2220; RoHS: Y; Technology: Film  PET; Package: 2220; VDC: 100V; TempCo: *; Tolerance %: ±10%; ESR Ohm: *; Temperature Range: -55°C ~ +100°C; Price: 0.707; ComponentLink1Description: Datasheet Link; ComponentLink1URL: https://store.comet.bg/download-file.php?id=2289; Package-mm: *; Value: 100n
simulation model Capacitor (Model Description)
signal-integrity model Capacitor (Model Description)
footprint C PET 2220(5750)x3.5
pins: 1, 2
1 alternate drawing of the same symbol

## C PET     630V 10n
designator C?, comment 10n
SMD 4030 PET 630V 10%; Manufacturer: WIMA; TYPE: Capacitors; VAC: 300V; Part Number: *; Mount Type: SMT; Publisher: Hefest; Manufacturer Alternate: *; Part Number Alternate: *; Published: 07.04.2019; Supplier 1: Comet; Supplier Part Number 1: *; RoHS: Y; Technology: Film  PET; Package: 4030; VDC: 630V; TempCo: *; Tolerance %: ±10%; ESR Ohm: *; Temperature Range: -55°C ~ +100°C; Price: *; ComponentLink1Description: Datasheet Link; ComponentLink1URL: https://store.comet.bg/download-file.php?id=2289; Package-mm: *; Value: 10n
simulation model Capacitor (Model Description)
signal-integrity model Capacitor (Model Description)
footprint C PET 4030)x5
pins: 1, 2
1 alternate drawing of the same symbol

## C PET     630V 100n
designator C?, comment 100n
SMD 6054 PET 630V 10%; Manufacturer: WIMA; TYPE: Capacitors; VAC: 300V; Part Number: *; Mount Type: SMT; Publisher: Hefest; Manufacturer Alternate: *; Part Number Alternate: *; Published: 07.04.2019; Supplier 1: Comet; Supplier Part Number 1: *; RoHS: Y; Technology: Film  PET; Package: 6054; VDC: 630V; TempCo: *; Tolerance %: ±10%; ESR Ohm: *; Temperature Range: -55°C ~ +100°C; Price: *; ComponentLink1Description: Datasheet Link; ComponentLink1URL: https://store.comet.bg/download-file.php?id=2289; Package-mm: *; Value: 100n
simulation model Capacitor (Model Description)
signal-integrity model Capacitor (Model Description)
footprint C PET 6054x7
pins: 1, 2
1 alternate drawing of the same symbol

## C PET       63V 100n
designator C?, comment 100n
SMD 2220 PET   63V 10%; Part Number: SMDTC03100TA00KQ00; Manufacturer: WIMA; TYPE: Capacitors; VAC: 40V; Mount Type: SMT; Publisher: Hefest; Manufacturer Alternate: *; Part Number Alternate: *; Published: 07.04.2019; Supplier 1: Comet; Supplier Part Number 1: CW 100nF 63Vdc 10% SMD2824; RoHS: Y; Technology: Film  PET; Package: 2220; VDC: 63V; TempCo: *; Tolerance %: ±10%; ESR Ohm: *; Temperature Range: -55°C ~ +100°C; Price: 0.622; ComponentLink1Description: Datasheet Link; ComponentLink1URL: https://store.comet.bg/download-file.php?id=2289; Package-mm: *; Value: 100n
simulation model Capacitor (Model Description)
signal-integrity model Capacitor (Model Description)
footprint C PET 2824(7261)x3
pins: 1, 2
1 alternate drawing of the same symbol

## C PET       63V 470n
designator C?, comment 100n
SMD 2824 PET   63V 10%; Part Number: SMDTC03470T1; Manufacturer: WIMA; TYPE: Capacitors; VAC: 40V; Mount Type: SMT; Publisher: Hefest; Manufacturer Alternate: *; Part Number Alternate: *; Published: 07.04.2019; Supplier 1: Comet; Supplier Part Number 1: CW 470nF 63Vdc SMD2824; RoHS: Y; Technology: Film  PET; Package: 2824; VDC: 63V; TempCo: *; Tolerance %: ±10%; ESR Ohm: *; Temperature Range: -55°C ~ +100°C; Price: 1.415; ComponentLink1Description: Datasheet Link; ComponentLink1URL: https://store.comet.bg/download-file.php?id=2289; Package-mm: *; Value: 100n
simulation model Capacitor (Model Description)
signal-integrity model Capacitor (Model Description)
footprint C PET 2824(7261)x5
pins: 1, 2
1 alternate drawing of the same symbol

## C PPS       10V 8.2n
designator C?, comment 8.2n
SMD 0805 PPS   10V 2%; Part Number: 667-ECH-U1C822GX5; Manufacturer: Panasonic; TYPE: Capacitors; VDC: 16V; Package-mm: 2012; Mount Type: SMT; Publisher: Hefest; Manufacturer Alternate: *; Part Number Alternate: *; Published: 07.04.2019; Supplier 1: Mouser; Supplier Part Number 1: ECH-U1C822GX5; RoHS: Y; Technology: Film PPS; Package: 0805; TempCo: *; Tolerance %: ±2%; VAC: *; ESR Ohm: *; Temperature Range: -55°C ~ +125°C; Price: 1.320; ComponentLink1Description: Datasheet Link; ComponentLink1URL: https://www.mouser.bg/datasheet/2/315/ABD0000C173-947527.pdf; Value: 8.2n
simulation model Capacitor (Model Description)
signal-integrity model Capacitor (Model Description)
footprint C 0805(2012)x0.85
pins: 1, 2
1 alternate drawing of the same symbol

## C PPS       16V 10n
designator C?, comment 10n
SMD 0805 PPS   16V 2%; Part Number: ECH-U1C103GX5; Manufacturer: Panasonic; TYPE: Capacitors; Package-mm: 2012; Mount Type: SMT; Publisher: Hefest; Manufacturer Alternate: *; Part Number Alternate: *; Published: 07.04.2019; Supplier 1: Mouser; Supplier Part Number 1: 667-ECH-U1C103GX5; RoHS: Y; Technology: Film PPS; Package: 0805; VDC: 16V; TempCo: *; Tolerance %: ±2%; VAC: *; ESR Ohm: *; Temperature Range: -55°C ~ +125°C; Price: 1.007; ComponentLink1Description: Datasheet Link; ComponentLink1URL: https://www.mouser.bg/datasheet/2/315/ABD0000C173-947527.pdf; Value: 10n
simulation model Capacitor (Model Description)
signal-integrity model Capacitor (Model Description)
footprint C 0805(2012)x0.85
pins: 1, 2
1 alternate drawing of the same symbol

## C Trimer TSC3S 1.5-3p
designator Ct?, comment 1.5-3p
SMD 3.2x4.5mm 1.5-3p N470   Q300 100V; Manufacturer: SUNTAN; TempCo: N470ppm/°C; Tolerance %: ±5%; Package-mm: 3245; Part Number: *; Mount Type: SMT; Publisher: Hefest; TYPE: Capacitors; Manufacturer Alternate: *; Part Number Alternate: *; Published: 07.04.2019; Supplier 1: Comet; Supplier Part Number 1: *; RoHS: Y; Technology: Trimmer Chip; Package: 3.2x4.5mm; VDC: 100V; VAC: *; ESR Ohm: *; Temperature Range: -25°C ~ +85°C; Price: 0.581; ComponentLink1Description: Datasheet Link; ComponentLink1URL: https://www.mouser.bg/datasheet/2/315/ABD0000C173-947527.pdfhttps://store.comet.bg/download-file.php?id=2362; Value: 1.5-3p
simulation model Capacitor (Model Description)
signal-integrity model Capacitor (Model Description)
footprint C Tr SMD3
pins: 1, 2
1 alternate drawing of the same symbol

## C Trimer TSC3S 2-6p
designator Ct?, comment 2-6p
SMD 3.2x4.5mm 2-6p    N470   Q500 100V; Part Number: 020HM030600CT00001R; Manufacturer: SUNTAN; TempCo: N470ppm/°C; Tolerance %: ±5%; Package-mm: 3245; Mount Type: SMT; Publisher: Hefest; TYPE: Capacitors; Manufacturer Alternate: *; Part Number Alternate: *; Published: 07.04.2019; Supplier 1: Comet; Supplier Part Number 1: CTSC3S 2.2-6pF BLUE SMD; RoHS: Y; Technology: Trimmer Chip; Package: 3.2x4.5mm; VDC: 100V; VAC: *; ESR Ohm: *; Temperature Range: -25°C ~ +85°C; Price: 0.581; ComponentLink1Description: Datasheet Link; ComponentLink1URL: https://www.mouser.bg/datasheet/2/315/ABD0000C173-947527.pdfhttps://store.comet.bg/download-file.php?id=2362; Value: 2-6p
simulation model Capacitor (Model Description)
signal-integrity model Capacitor (Model Description)
footprint C Tr SMD3
pins: 1, 2
1 alternate drawing of the same symbol

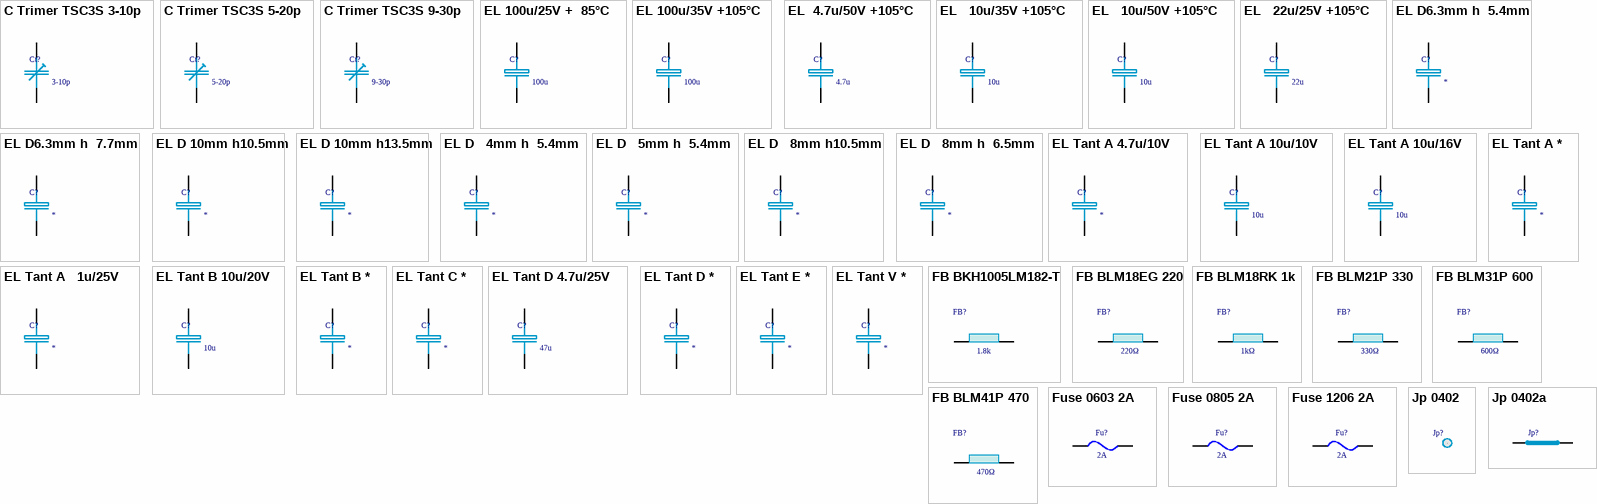
[diagram p3: symbols C Trimer TSC3S 3-10p to Jp 0402a]

## C Trimer TSC3S 3-10p
designator Ct?, comment 3-10p
SMD 3.2x4.5mm 3-10p  N1000 Q500   50V; Part Number: 020HM031000CT00001R; Manufacturer: SUNTAN; TempCo: N1000ppm/°C; Tolerance %: ±5%; Package-mm: 3245; Mount Type: SMT; Publisher: Hefest; TYPE: Capacitors; Manufacturer Alternate: *; Part Number Alternate: *; Published: 07.04.2019; Supplier 1: Comet; Supplier Part Number 1: CTSC3S 3.5-10pF WHITE SMD; RoHS: Y; Technology: Trimmer Chip; Package: 3.2x4.5mm; VDC: 50V; VAC: *; ESR Ohm: *; Temperature Range: -25°C ~ +85°C; Price: 0.581; ComponentLink1Description: Datasheet Link; ComponentLink1URL: https://www.mouser.bg/datasheet/2/315/ABD0000C173-947527.pdfhttps://store.comet.bg/download-file.php?id=2362; Value: 3-10p
simulation model Capacitor (Model Description)
signal-integrity model Capacitor (Model Description)
footprint C Tr SMD3
pins: 1, 2
1 alternate drawing of the same symbol

## C Trimer TSC3S 5-20p
designator Ct?, comment 5-20p
SMD 3.2x4.5mm 5-20p  N1000 Q500   50V; Part Number: 020HM052000CT00001R; Manufacturer: SUNTAN; TempCo: N1000ppm/°C; Tolerance %: ±5%; Package-mm: 3245; Mount Type: SMT; Publisher: Hefest; TYPE: Capacitors; Manufacturer Alternate: *; Part Number Alternate: *; Published: 07.04.2019; Supplier 1: Comet; Supplier Part Number 1: *; RoHS: Y; Technology: Trimmer Chip; Package: 3.2x4.5mm; VDC: 50V; VAC: *; ESR Ohm: *; Temperature Range: -25°C ~ +85°C; Price: *; ComponentLink1Description: Datasheet Link; ComponentLink1URL: https://www.mouser.bg/datasheet/2/315/ABD0000C173-947527.pdfhttps://store.comet.bg/download-file.php?id=2362; Value: 5-20p
simulation model Capacitor (Model Description)
signal-integrity model Capacitor (Model Description)
footprint C Tr SMD3
pins: 1, 2
1 alternate drawing of the same symbol

## C Trimer TSC3S 9-30p
designator Ct?, comment 9-30p
SMD 3.2x4.5mm 9-30p  N1200 Q500   50V; Part Number: 020HM093000CT00001R; Manufacturer: SUNTAN; TempCo: N1200ppm/°C; Tolerance %: ±5%; Package-mm: 3245; Mount Type: SMT; Publisher: Hefest; TYPE: Capacitors; Manufacturer Alternate: *; Part Number Alternate: *; Supplier 1: Comet; Supplier Part Number 1: *; RoHS: Y; Technology: Trimmer Chip; Package: 3.2x4.5mm; VDC: 50V; VAC: *; ESR Ohm: *; Temperature Range: -25°C ~ +85°C; Price: *; ComponentLink1Description: Datasheet Link; ComponentLink1URL: https://www.mouser.bg/datasheet/2/315/ABD0000C173-947527.pdfhttps://store.comet.bg/download-file.php?id=2362; Published: 07.04.2019; Value: 9-30p
simulation model Capacitor (Model Description)
signal-integrity model Capacitor (Model Description)
footprint C Tr SMD3
pins: 1, 2
1 alternate drawing of the same symbol

## EL 100u/25V +  85°C
designator C?, comment 100u
SMD D6.3mm h  7.7mm; Part Number: CE 100uF 25V SMD Fujicon; Manufacturer: Fujicon; VDC: 25V; Tolerance %: ±20%; TYPE: Capacitors; Load life: 2000h @ +105°C; Mount Type: SMT; Publisher: Hefest; Manufacturer Alternate: *; Part Number Alternate: *; Published: 07.04.2019; Supplier 1: Comet; Supplier Part Number 1: CS1E101M-CRE77; RoHS: Y; Technology: Electrolytic Aluminum; Package: D6.3mm h7.7mm; TempCo: *; VAC: *; ESR Ohm: *; ComponentLink1Description: Datasheet Link; ComponentLink1URL: https://store.comet.bg/download-file.php?id=10100; Temperature Range: -40°C ~ +85°C; Price: *; Value: 100u
simulation model Capacitor (Model Description)
signal-integrity model Capacitor (Model Description)
footprint EL SMD D6.3 h7.7
pins: 1, 2
1 alternate drawing of the same symbol

## EL 100u/35V +105°C
designator C?, comment 100u
SMD D6.3mm h  7.7mm; Part Number: CK1V101M-CRE77; Manufacturer: Fujicon; VDC: 35V; Tolerance %: ±20%; TYPE: Capacitors; Load life: 2000h @ +105°C; Mount Type: SMT; Publisher: Hefest; Manufacturer Alternate: *; Part Number Alternate: *; Published: 07.04.2019; Supplier 1: Comet; Supplier Part Number 1: CE 100uF 35V SMD 105C Fujicon; RoHS: Y; Technology: Electrolytic Aluminum; Package: D6.3mm h7.7mm; TempCo: *; VAC: *; ESR Ohm: *; ComponentLink1Description: Datasheet Link; ComponentLink1URL: https://store.comet.bg/download-file.php?id=10100; Temperature Range: -40°C ~ +105°C; Price: *; Value: 100u
simulation model Capacitor (Model Description)
signal-integrity model Capacitor (Model Description)
footprint EL SMD D6.3 h7.7
pins: 1, 2
1 alternate drawing of the same symbol

## EL  4.7u/50V +105°C
designator C?, comment 4.7u
SMD D   5mm h  5.4mm; Part Number: CK1H4R7M-CRD54; Manufacturer: Fujicon; VDC: 50V; Tolerance %: ±20%; TYPE: Capacitors; Load life: 2000h @ +105°C; Mount Type: SMT; Publisher: Hefest; Manufacturer Alternate: *; Part Number Alternate: *; Published: 07.04.2019; Supplier 1: Comet; Supplier Part Number 1: CE 4.7uF 50V SMD 105C Fujicon; RoHS: Y; Technology: Electrolytic Aluminum; Package: D5mm h5.4mm; TempCo: *; VAC: *; ESR Ohm: *; ComponentLink1Description: Datasheet Link; ComponentLink1URL: https://store.comet.bg/download-file.php?id=10100; Temperature Range: -40°C ~ +105°C; Price: 0.687; Value: 4.7u
simulation model Capacitor (Model Description)
signal-integrity model Capacitor (Model Description)
footprint EL SMD D5 h5.4
pins: 1, 2
1 alternate drawing of the same symbol